# Altium integrated library NexieSpecific.IntLib: 11 symbols
Pins are listed as number, name and electrical type; pins without a type are passive.

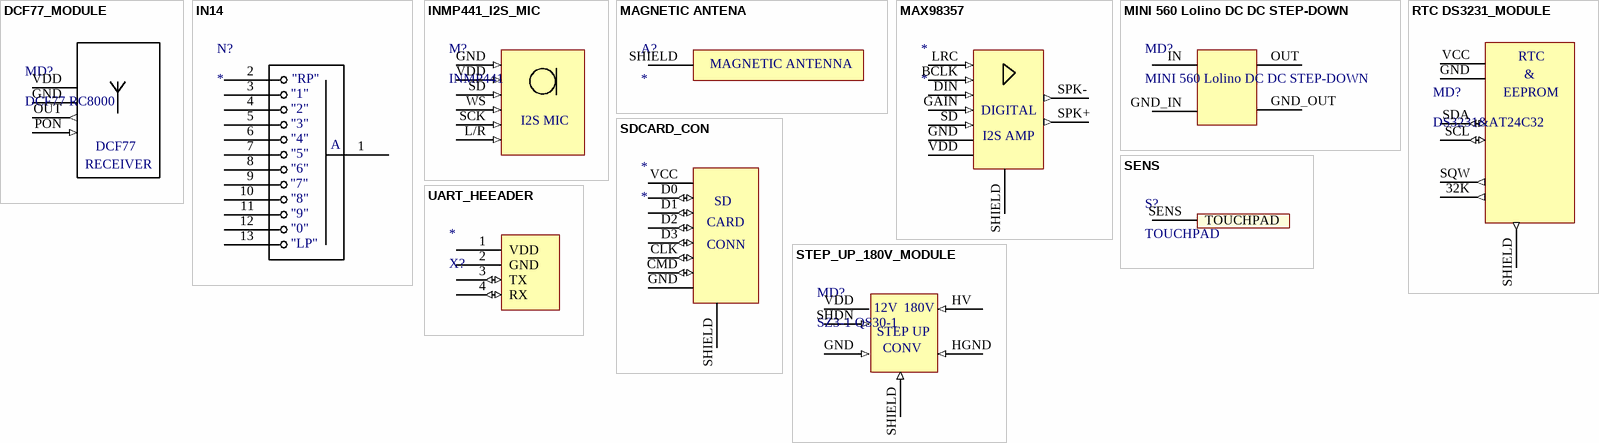
[diagram p0: symbols DCF77_MODULE to UART_HEEADER]

## DCF77_MODULE
designator MD?, comment DCF77 RC8000
footprint DFC77_MODULE (Rdio time sync module)
pins: GND (power), OUT (out), PON (in), VDD (power)
text: DCF77; RECEIVER

## IN14
designator N?
footprint IN14
pins: 1, 2, 3, 4, 5, 6, 7, 8, 9, 10, 11, 12, 13
text: "RP"; "1"; "2"; "3"; "4"; A; "5"; "6"; "7"; "8"; "9"; "0"; "LP"

## INMP441_I2S_MIC
designator M?, comment INMP441
Digital microphone
footprint INMP441_i2s_microphone_module
pins: GND (in), L/R (in), SCK (in), SD (in), VDD (in), WS (in)
text: I2S MIC

## MAGNETIC ANTENA
designator A?
footprint MAGNETIC ANTENA
pins: SHIELD
text: MAGNETIC ANTENNA

## MAX98357
designator *
footprint MAX98357
pins: BCLK (in), DIN (in), GAIN (in), GND (power), LRC (in), SD (in), SHIELD (power), SPK+ (out), SPK- (out), VDD (power)
text: DIGITAL; I2S AMP

## MINI 560 Lolino DC DC STEP-DOWN
designator MD?
footprint MINI 560 Lolino DC DC STEP-DOWN
pins: GND_IN (power), GND_OUT (power), IN (power), OUT (power)

## RTC DS3231_MODULE
designator MD?, comment DS3231&AT24C32
footprint DS3231_MODULE (DS3231 / + / AT24C32)
pins: 32K (out), GND (power), SCL (io), SDA (io), SHIELD (out), SQW (out), VCC (power)
text: RTC; &; EEPROM

## SDCARD_CON
designator *
footprint SDCARD_CONN
pins: CLK (io), CMD (io), D0 (io), D1 (io), D2 (io), D3 (io), GND (power), SHIELD (power), VCC (power)
text: SD; CARD; CONN

## SENS
designator S?, comment TOUCHPAD
footprint SENS
pins: SENS TOUCHPAD

## STEP_UP_180V_MODULE
designator MD?, comment SZ3-1 QS30-1
footprint STEP_UP_180V (Step up adjustable converter)
pins: GND (in), HGND (in), HV (in), SHDN (in), SHIELD (in), VDD (power)
text: 12V; 180V; STEP UP; CONV

## UART_HEEADER
designator *, comment X?
footprint 4X1HEADER (Pin Header, pitch 2.54 mm, THT, Vertical, single row, 4p)
pins: 1 VDD (power), 2 GND (power), 3 TX (io), 4 RX (io)